# Altium schematic symbol library mounting_holes.SchLib: 1 symbol
Pins are listed as number, name and electrical type; pins without a type are passive.

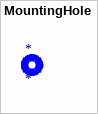
[diagram p0: symbol MountingHole]

## MountingHole
designator *